# EAGLE library part BOARD_ARDUINO-NANO (library A4988)
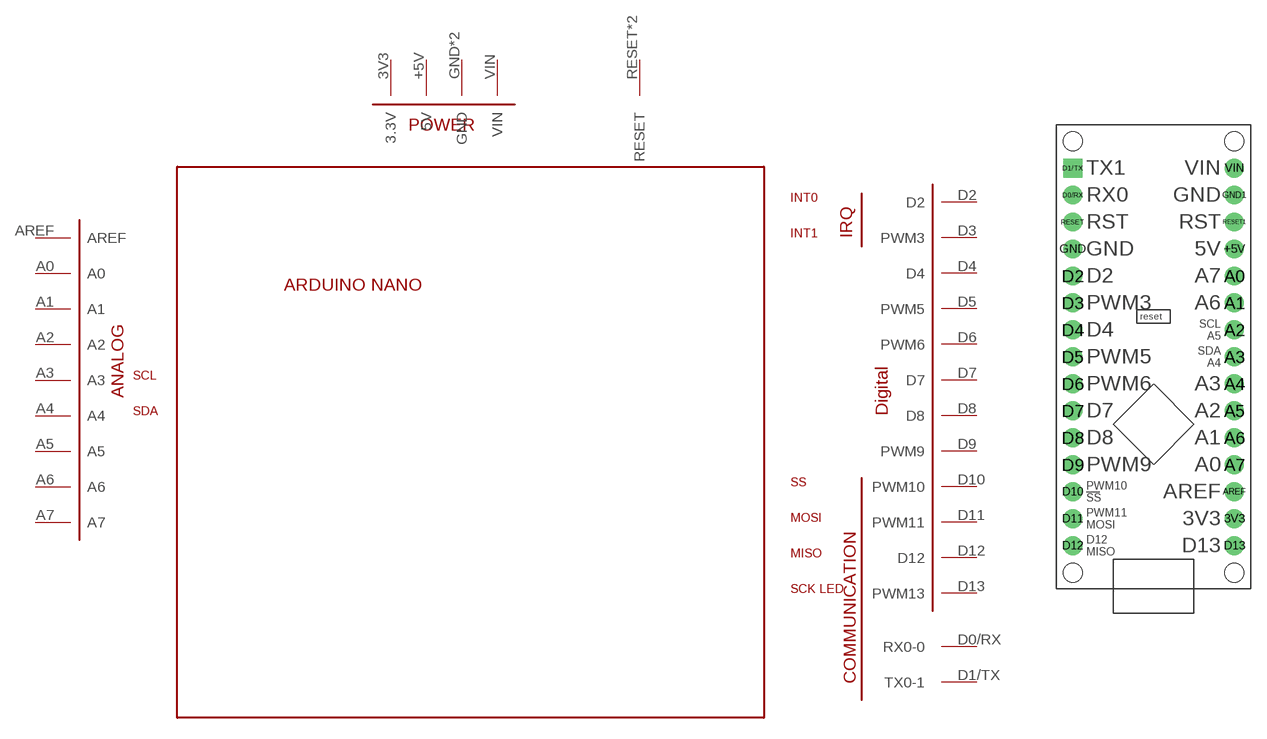
[diagram p22: symbol with the pads of BOARD_ARDUINO_NANO; footprint BOARD_ARDUINO_NANO]

Designator prefix -

## BOARD_ARDUINO-NANO  [BOARD_ARDUINO_NANO]
3V3  3.3V  pwr
+5V  5V  pwr
A0  A0
A1  A1
A2  A2
A3  A3
A4  A4
A5  A5
A6  A6
A7  A7
AREF  AREF
D0/RX  RX0-0
D1/TX  TX0-1
D2  D2
D3  PWM3
D4  D4
D5  PWM5
D6  PWM6
D7  D7
D8  D8
D9  PWM9
D10  PWM10
D11  PWM11
D12  D12
D13  PWM13
GND  GND  pwr
GND1  GND  pwr
RESET  RESET
RESET1  RESET
VIN  VIN  pwr

## Footprint BOARD_ARDUINO_NANO (pad centres in mm)
drill 0.8 pad 1.778: 3V3 15.24,2.54; +5V 15.24,27.94; A0 15.24,25.4; A1 15.24,22.86; A2 15.24,20.32; A3 15.24,17.78; A4 15.24,15.24; A5 15.24,12.7; A6 15.24,10.16; A7 15.24,7.62; AREF 15.24,5.08; D0/RX 0,33.02; D2 0,25.4; D3 0,22.86; D4 0,20.32; D5 0,17.78; D6 0,15.24; D7 0,12.7; D8 0,10.16; D9 0,7.62; D10 0,5.08; D11 0,2.54; D12 0,0; D13 15.24,0; GND 0,27.94; GND1 15.24,33.02; RESET 0,30.48; RESET1 15.24,30.48; VIN 15.24,35.56
drill 0.8 pad 1.778 square: D1/TX 0,35.56
hole 1.778 at 0,38.1
hole 1.778 at 0,-2.54
hole 1.778 at 15.24,-2.54
hole 1.778 at 15.24,38.1